# Altium footprint library RESC3216X65N.PCBLIB: 1 footprints
Each footprint in its own frame and in the unit in brackets; x right, y up, seen from the top. Pads: shape width x height; smd on the part's side, far side on the other; paste and mask are expansions set on the pad; w line width, h text height; cw(c..) or ccw(c..) is an arc to the next point about the centre after c.
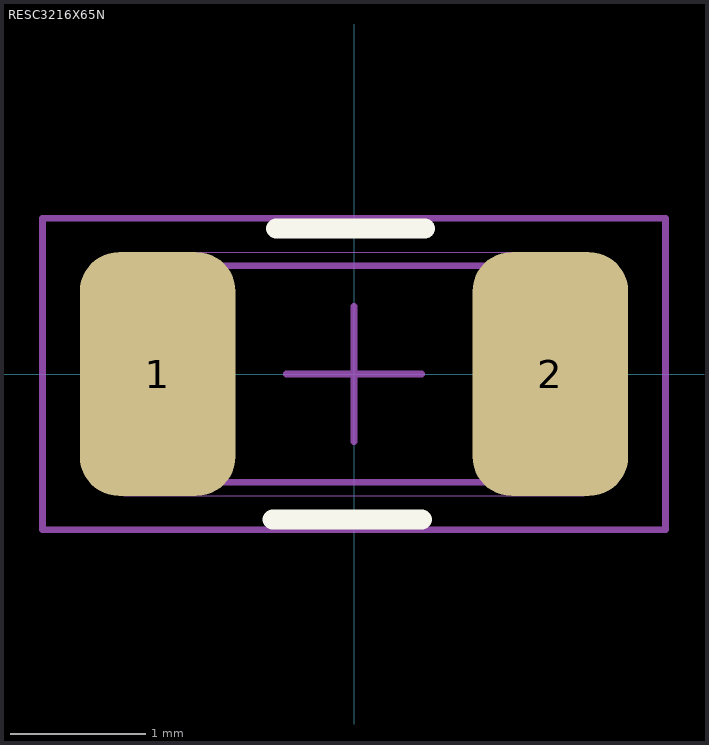
[diagram p0: the footprint, top view; thin cyan lines are the x and y axes]

## RESC3216X65N [mm] "RESISTOR NOMINAL 1206"
height 0.65
pads (2):
  rrect50% 1.15x1.8 smd paste+0: 1(-1.45,0) 2(1.45,0)
Top Overlay:
  lines w0.15: -0.6,-1.075 0.5,-1.075 ; -0.575,1.075 0.525,1.075
Top Component Outline:
  lines w0.001: -1.7,-0.9 1.7,-0.9 1.7,0.9 -1.7,0.9 -1.7,-0.9
  lines w0.05: -1.6,-0.8 1.6,-0.8 1.6,0.8 -1.6,0.8 -1.6,-0.8
Top Courtyard:
  lines w0.05: -0.5,0 0.5,0 ; 0,-0.5 0,0.5 ; -2.3,-1.15 2.3,-1.15 2.3,1.15 -2.3,1.15 -2.3,-1.15
3D body: height 0.6, standoff 0.05, extent 1.143,-0.9 1.7,0.9
3D body: height 0.6, standoff 0.05, extent -1.7,-0.9 -1.143,0.9
3D body: height 0.6, standoff 0.05, extent -1.143,-0.9 1.143,0.9